# Altium schematic symbol library LX1-Teensy.SchLib: 12 symbols
Pins are listed as number, name and electrical type; pins without a type are passive.

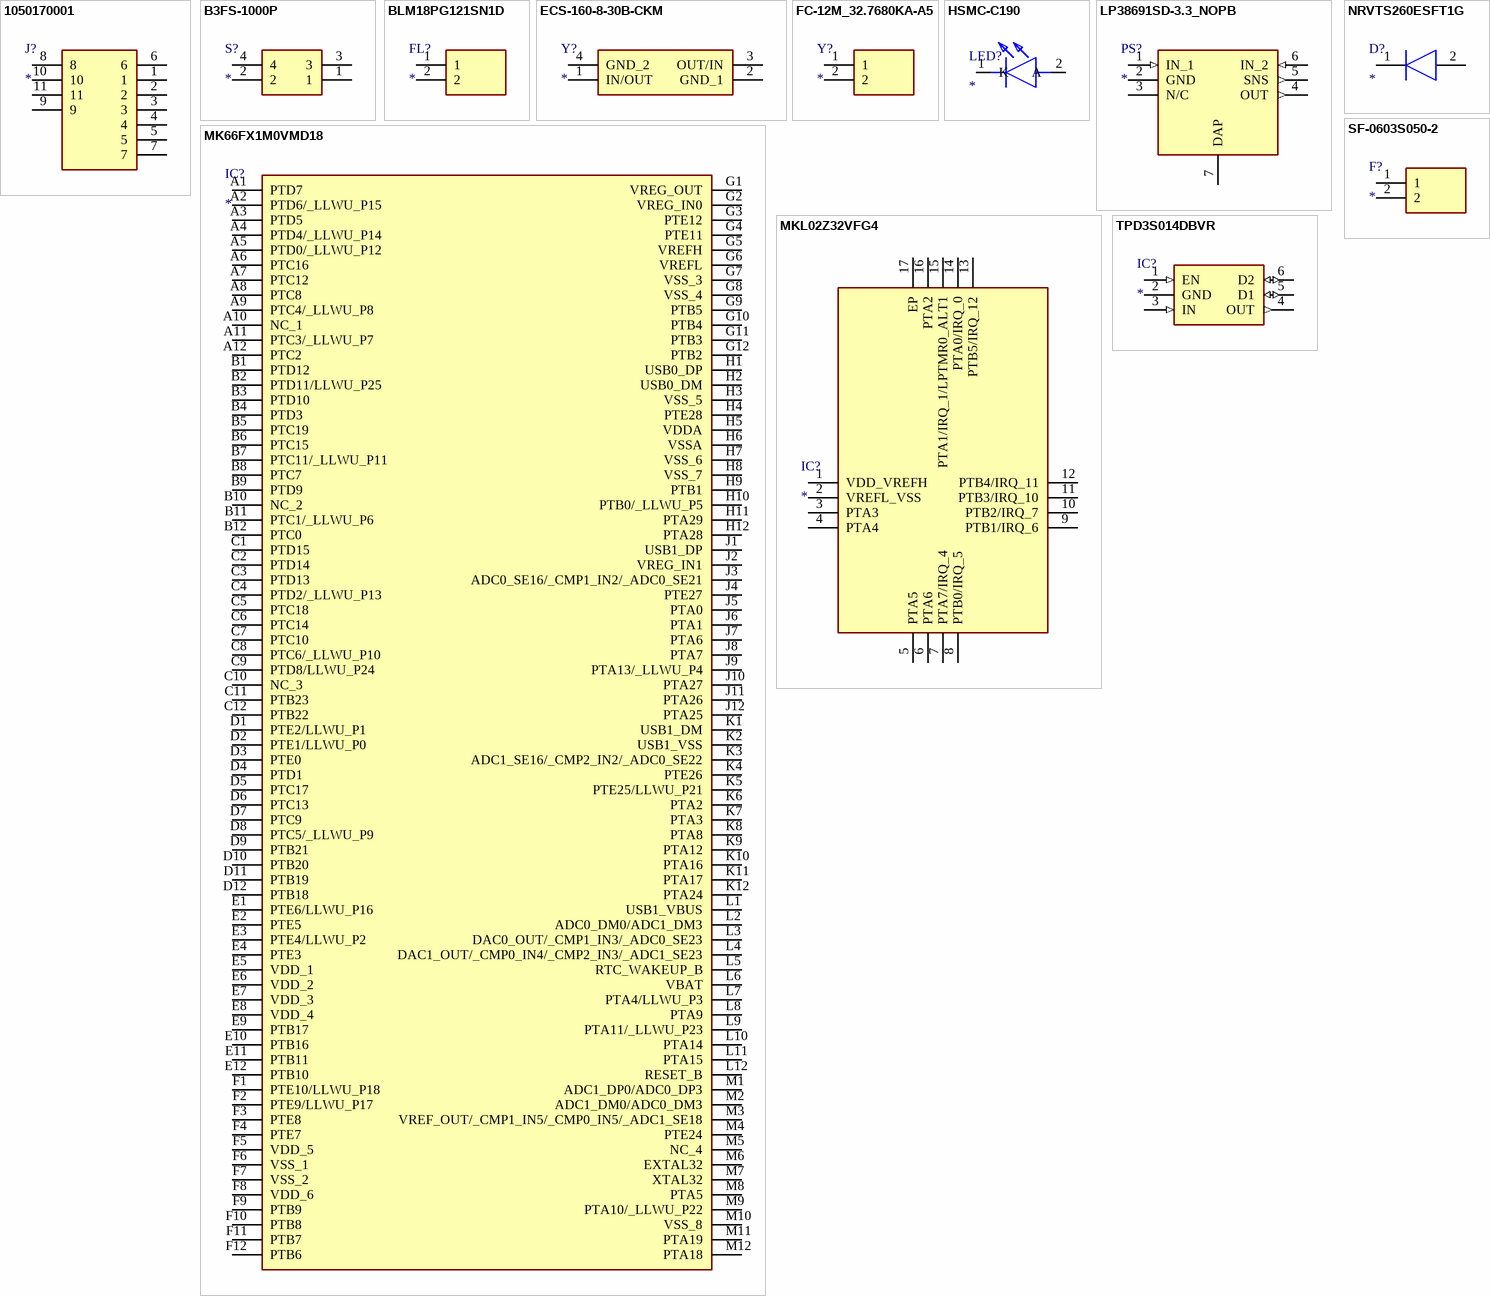
[diagram p0: symbols 1050170001 to TPD3S014DBVR]

## 1050170001
designator J?
Connector; Manufacturer_Name: Molex; Manufacturer_Part_Number: 1050170001; Datasheet Link: http://www.mouser.com/ds/2/276/1050170001_IO_CONNECTORS-230168.pdf; Mouser Part Number: N/A; Mouser Price/Stock: https://www.mouser.com/Search/Refine.aspx?Keyword=N%2FA
footprint MICROUSB-BTYPE
pins: 1, 2, 3, 4, 5, 6, 7, 8, 9, 10, 11

## B3FS-1000P
designator S?
Switch; Manufacturer_Name: Omron Electronics; Manufacturer_Part_Number: B3FS-1000P; Allied_Number: 70175891; Datasheet Link: https://www.omron.co.jp/ecb/products/pdf/b3fs.pdf; Mouser Part Number: 653-B3FS-1000P; Mouser Price/Stock: https://www.mouser.com/Search/Refine.aspx?Keyword=653-B3FS-1000P; RS Part Number: 6821254P; RS Price/Stock: http://uk.rs-online.com/web/p/products/6821254P; Allied Price/Stock: http://www.alliedelec.com/omron-electronic-components-b3fs-1000p/70175891/
footprint B3FS-1000P
pins: 1, 2, 3, 4

## BLM18PG121SN1D
designator FL?
Filter; Manufacturer_Name: Murata Electronics; Manufacturer_Part_Number: BLM18PG121SN1D; Datasheet Link: https://www.murata.com/en-us/products/productdetail?partno=BLM18PG121SN1%23; Height: 0.95mm; Mouser Part Number: 81-BLM18PG121SN1D; Mouser Price/Stock: https://www.mouser.com/Search/Refine.aspx?Keyword=81-BLM18PG121SN1D; RS Part Number: 7241380P; RS Price/Stock: http://uk.rs-online.com/web/p/products/7241380P
footprint BEADC1608X95N
pins: 1, 2

## ECS-160-8-30B-CKM
designator Y?
Crystal or Oscillator; Manufacturer_Name: ECS; Manufacturer_Part_Number: ECS-160-8-30B-CKM; Datasheet Link: https://ecsxtal.com/store/pdf/ecx_53b.pdf; Height: 0.85mm; Mouser Part Number: 520-160-8-30B-CKM; Mouser Price/Stock: https://www.mouser.com/Search/Refine.aspx?Keyword=520-160-8-30B-CKM
footprint ECS801830BAGNTR
pins: 1 IN/OUT, 2 GND_1, 3 OUT/IN, 4 GND_2

## FC-12M_32.7680KA-A5
designator Y?
Crystal or Oscillator; Manufacturer_Name: Epson Timing; Manufacturer_Part_Number: FC-12M 32.7680KA-A5; Datasheet Link: https://support.epson.biz/td/api/doc_check.php?dl=brief_FC-12D&lang=en; Height: 0.6mm; Mouser Part Number: 732-FC-12M32.768KAA5; Mouser Price/Stock: https://www.mouser.com/Search/Refine.aspx?Keyword=732-FC-12M32.768KAA5
footprint FC12M327680KAA5
pins: 1, 2

## HSMC-C190
designator LED?
LED; Manufacturer_Name: Avago Technologies; Manufacturer_Part_Number: HSMC-C190; Datasheet Link: http://www.mouser.hk/ProductDetail/Broadcom-Avago/HSMC-C190/?qs=YDL0qNrpDT4TTmzDJNXHWQ==; Height: 0.9mm; Mouser Part Number: 630-HSMC-C190; Mouser Price/Stock: https://www.mouser.com/Search/Refine.aspx?Keyword=630-HSMC-C190; RS Part Number: 6910391P; RS Price/Stock: http://uk.rs-online.com/web/p/products/6910391P
footprint LEDC1608X90N
pins: 1 K, 2 A

## LP38691SD-3.3_NOPB
designator PS?
Power Supply; Manufacturer_Name: Texas Instruments; Manufacturer_Part_Number: LP38691SD-3.3/NOPB; Datasheet Link: http://www.ti.com/lit/ds/symlink/lp38693-q1.pdf; Height: 0.8mm; Mouser Part Number: 926-38691SD-3.3/NOPB; Mouser Price/Stock: https://www.mouser.com/Search/Refine.aspx?Keyword=926-38691SD-3.3%2FNOPB; RS Part Number: 7616605P; RS Price/Stock: http://uk.rs-online.com/web/p/products/7616605P
footprint SON95P300X300X80-7N
pins: 1 IN_1 (in), 2 GND (power), 3 N/C, 4 OUT (out), 5 SNS (out), 6 IN_2 (in), 7 DAP

## MK66FX1M0VMD18
designator IC?
Integrated Circuit; Manufacturer_Name: Nexperia; Manufacturer_Part_Number: MK66FX1M0VMD18; Datasheet Link: https://componentsearchengine.com/Datasheets/2/MK66FX1M0VMD18.pdf; Height: 1.7mm; Mouser Part Number: 841-MK66FX1M0VMD18; Mouser Price/Stock: https://www.mouser.com/Search/Refine.aspx?Keyword=841-MK66FX1M0VMD18
footprint BGA144C100P12X12_1300X1300X170
pins: A1 PTD7, A2 PTD6/_LLWU_P15, A3 PTD5, A4 PTD4/_LLWU_P14, A5 PTD0/_LLWU_P12, A6 PTC16, A7 PTC12, A8 PTC8, A9 PTC4/_LLWU_P8, A10 NC_1, A11 PTC3/_LLWU_P7, A12 PTC2, B1 PTD12, B2 PTD11/LLWU_P25, B3 PTD10, B4 PTD3, B5 PTC19, B6 PTC15, B7 PTC11/_LLWU_P11, B8 PTC7, B9 PTD9, B10 NC_2, B11 PTC1/_LLWU_P6, B12 PTC0, C1 PTD15, C2 PTD14, C3 PTD13, C4 PTD2/_LLWU_P13, C5 PTC18, C6 PTC14, C7 PTC10, C8 PTC6/_LLWU_P10, C9 PTD8/LLWU_P24, C10 NC_3, C11 PTB23, C12 PTB22, D1 PTE2/LLWU_P1, D2 PTE1/LLWU_P0, D3 PTE0, D4 PTD1, D5 PTC17, D6 PTC13, D7 PTC9, D8 PTC5/_LLWU_P9, D9 PTB21, D10 PTB20, D11 PTB19, D12 PTB18, E1 PTE6/LLWU_P16, E2 PTE5, E3 PTE4/LLWU_P2, E4 PTE3, E5 VDD_1, E6 VDD_2, E7 VDD_3, E8 VDD_4, E9 PTB17, E10 PTB16, E11 PTB11, E12 PTB10, F1 PTE10/LLWU_P18, F2 PTE9/LLWU_P17, F3 PTE8, F4 PTE7, F5 VDD_5, F6 VSS_1, F7 VSS_2, F8 VDD_6, F9 PTB9, F10 PTB8, F11 PTB7, F12 PTB6, G1 VREG_OUT, G2 VREG_IN0, G3 PTE12, G4 PTE11, G5 VREFH, G6 VREFL, G7 VSS_3, G8 VSS_4, G9 PTB5, G10 PTB4, G11 PTB3, G12 PTB2, H1 USB0_DP, H2 USB0_DM, H3 VSS_5, H4 PTE28, H5 VDDA, H6 VSSA, H7 VSS_6, H8 VSS_7, H9 PTB1, H10 PTB0/_LLWU_P5, H11 PTA29, H12 PTA28, J1 USB1_DP, J2 VREG_IN1, J3 ADC0_SE16/_CMP1_IN2/_ADC0_SE21, J4 PTE27, J5 PTA0, J6 PTA1, J7 PTA6, J8 PTA7, J9 PTA13/_LLWU_P4, J10 PTA27, J11 PTA26, J12 PTA25, K1 USB1_DM, K2 USB1_VSS, K3 ADC1_SE16/_CMP2_IN2/_ADC0_SE22, K4 PTE26, K5 PTE25/LLWU_P21, K6 PTA2, K7 PTA3, K8 PTA8, K9 PTA12, K10 PTA16, K11 PTA17, K12 PTA24, L1 USB1_VBUS, L2 ADC0_DM0/ADC1_DM3, L3 DAC0_OUT/_CMP1_IN3/_ADC0_SE23, L4 DAC1_OUT/_CMP0_IN4/_CMP2_IN3/_ADC1_SE23, L5 RTC_WAKEUP_B, L6 VBAT, L7 PTA4/LLWU_P3, L8 PTA9, L9 PTA11/_LLWU_P23, L10 PTA14, L11 PTA15, L12 RESET_B, M1 ADC1_DP0/ADC0_DP3, M2 ADC1_DM0/ADC0_DM3, M3 VREF_OUT/_CMP1_IN5/_CMP0_IN5/_ADC1_SE18, M4 PTE24, M5 NC_4, M6 EXTAL32, M7 XTAL32, M8 PTA5, M9 PTA10/_LLWU_P22, M10 VSS_8, M11 PTA19, M12 PTA18

## MKL02Z32VFG4
designator IC?
Integrated Circuit; Manufacturer_Name: Nexperia; Manufacturer_Part_Number: MKL02Z32VFG4; Datasheet Link: https://www.nxp.com/docs/en/data-sheet/KL02P32M48SF0.pdf; Height: 0.65mm; Mouser Part Number: 841-MKL02Z32VFG4; Mouser Price/Stock: https://www.mouser.com/Search/Refine.aspx?Keyword=841-MKL02Z32VFG4; RS Part Number: 7884723P; RS Price/Stock: http://uk.rs-online.com/web/p/products/7884723P
footprint QFN50P300X300X65-17N-D
pins: 1 VDD_VREFH, 2 VREFL_VSS, 3 PTA3, 4 PTA4, 5 PTA5, 6 PTA6, 7 PTA7/IRQ_4, 8 PTB0/IRQ_5, 9 PTB1/IRQ_6, 10 PTB2/IRQ_7, 11 PTB3/IRQ_10, 12 PTB4/IRQ_11, 13 PTB5/IRQ_12, 14 PTA0/IRQ_0, 15 PTA1/IRQ_1/LPTMR0_ALT1, 16 PTA2, 17 EP

## NRVTS260ESFT1G
designator D?
Diode; Manufacturer_Name: ON Semiconductor; Manufacturer_Part_Number: NRVTS260ESFT1G; Allied_Number: 70600214; Datasheet Link: http://www.onsemi.com/pub/Collateral/NTS260ESF-D.PDF; Height: 0.98mm; Mouser Part Number: 863-NRVTS260ESFT1G; Mouser Price/Stock: https://www.mouser.com/Search/Refine.aspx?Keyword=863-NRVTS260ESFT1G; RS Part Number: 8673243P; RS Price/Stock: http://uk.rs-online.com/web/p/products/8673243P; Allied Price/Stock: http://www.alliedelec.com/on-semiconductor-nrvts260esft1g/70600214/
footprint SODFL3616X98N
pins: 1 K, 2 A

## SF-0603S050-2
designator F?
Fuse; Manufacturer_Name: Bourns; Manufacturer_Part_Number: SF-0603S050-2; Allied_Number: 71279504; Datasheet Link: https://www.bourns.com/docs/Product-Datasheets/sf0603s.pdf; Height: 0.55mm; Mouser Part Number: 652-SF-0603S050-2; Mouser Price/Stock: https://www.mouser.com/Search/Refine.aspx?Keyword=652-SF-0603S050-2; RS Part Number: 8978989P; RS Price/Stock: http://uk.rs-online.com/web/p/products/8978989P; Allied Price/Stock: https://www.alliedelec.com/bourns-sf-0603s050-2/71279504/
footprint FUSC1608X55N
pins: 1, 2

## TPD3S014DBVR
designator IC?
Integrated Circuit; Manufacturer_Name: Texas Instruments; Manufacturer_Part_Number: TPD3S014DBVR; Datasheet Link: http://www.ti.com/lit/ds/symlink/tpd3s044.pdf; Height: 1.45mm; Mouser Part Number: 595-TPD3S014DBVR; Mouser Price/Stock: https://www.mouser.com/Search/Refine.aspx?Keyword=595-TPD3S014DBVR; RS Part Number: 9009703P; RS Price/Stock: http://uk.rs-online.com/web/p/products/9009703P
footprint SOT95P280X145-6N
pins: 1 EN (in), 2 GND (power), 3 IN (in), 4 OUT (out), 5 D1 (io), 6 D2 (io)